# EAGLE library part XC9536 (library Xilinx)
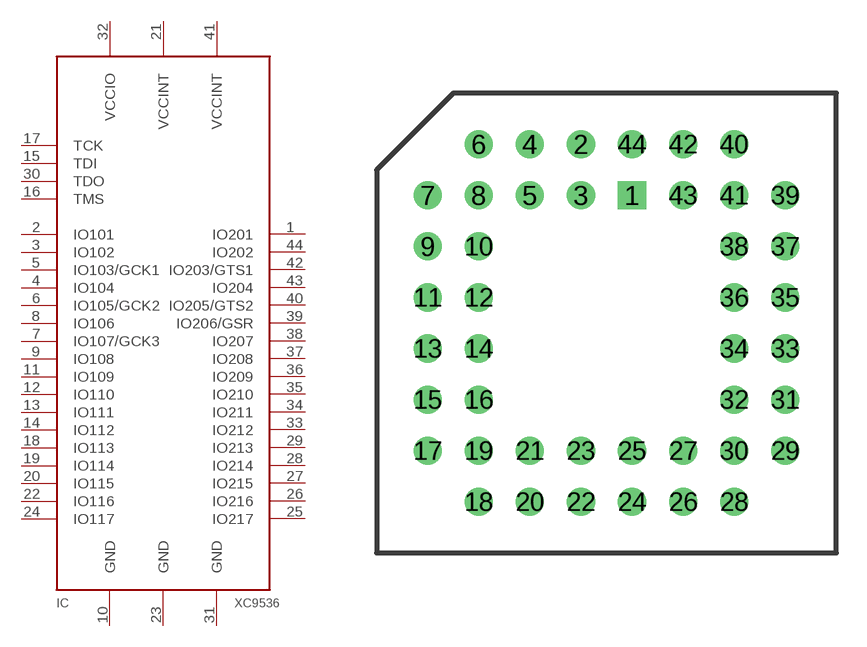
[diagram p0: symbol with the pads of PLCC-44T; footprint PLCC-44T]

Designator prefix IC

## XC9536PC44  [PLCC-44T]
1  IO201
2  IO101
3  IO102
4  IO104
5  IO103/GCK1
6  IO105/GCK2
7  IO107/GCK3
8  IO106
9  IO108
10  GND  pwr
11  IO109
12  IO110
13  IO111
14  IO112
15  TDI  in
16  TMS  in
17  TCK  in
18  IO113
19  IO114
20  IO115
21  VCCINT  pwr
22  IO116
23  GND  pwr
24  IO117
25  IO217
26  IO216
27  IO215
28  IO214
29  IO213
30  TDO  in
31  GND  pwr
32  VCCIO  pwr
33  IO212
34  IO211
35  IO210
36  IO209
37  IO208
38  IO207
39  IO206/GSR
40  IO205/GTS2
41  VCCINT  pwr
42  IO203/GTS1
43  IO204
44  IO202

## Footprint PLCC-44T (pad centres in mm)
44 pin PLCC, through hole socket
drill 0.889 square: 1 1.27,6.35
drill 0.889 round: 2 -1.27,8.89; 3 -1.27,6.35; 4 -3.81,8.89; 5 -3.81,6.35; 6 -6.35,8.89; 7 -8.89,6.35; 8 -6.35,6.35; 9 -8.89,3.81; 10 -6.35,3.81; 11 -8.89,1.27; 12 -6.35,1.27; 13 -8.89,-1.27; 14 -6.35,-1.27; 15 -8.89,-3.81; 16 -6.35,-3.81; 17 -8.89,-6.35; 18 -6.35,-8.89; 19 -6.35,-6.35; 20 -3.81,-8.89; 21 -3.81,-6.35; 22 -1.27,-8.89; 23 -1.27,-6.35; 24 1.27,-8.89; 25 1.27,-6.35; 26 3.81,-8.89; 27 3.81,-6.35; 28 6.35,-8.89; 29 8.89,-6.35; 30 6.35,-6.35; 31 8.89,-3.81; 32 6.35,-3.81; 33 8.89,-1.27; 34 6.35,-1.27; 35 8.89,1.27; 36 6.35,1.27; 37 8.89,3.81; 38 6.35,3.81; 39 8.89,6.35; 40 6.35,8.89; 41 6.35,6.35; 42 3.81,8.89; 43 3.81,6.35; 44 1.27,8.89